# Altium footprint library PcbLib.PcbLib: 20 footprints (part 1 of 2)
Each footprint in its own frame and in the unit in brackets; x right, y up, seen from the top. Pads: shape width x height; smd on the part's side, far side on the other; paste and mask are expansions set on the pad; w line width, h text height; cw(c..) or ccw(c..) is an arc to the next point about the centre after c.
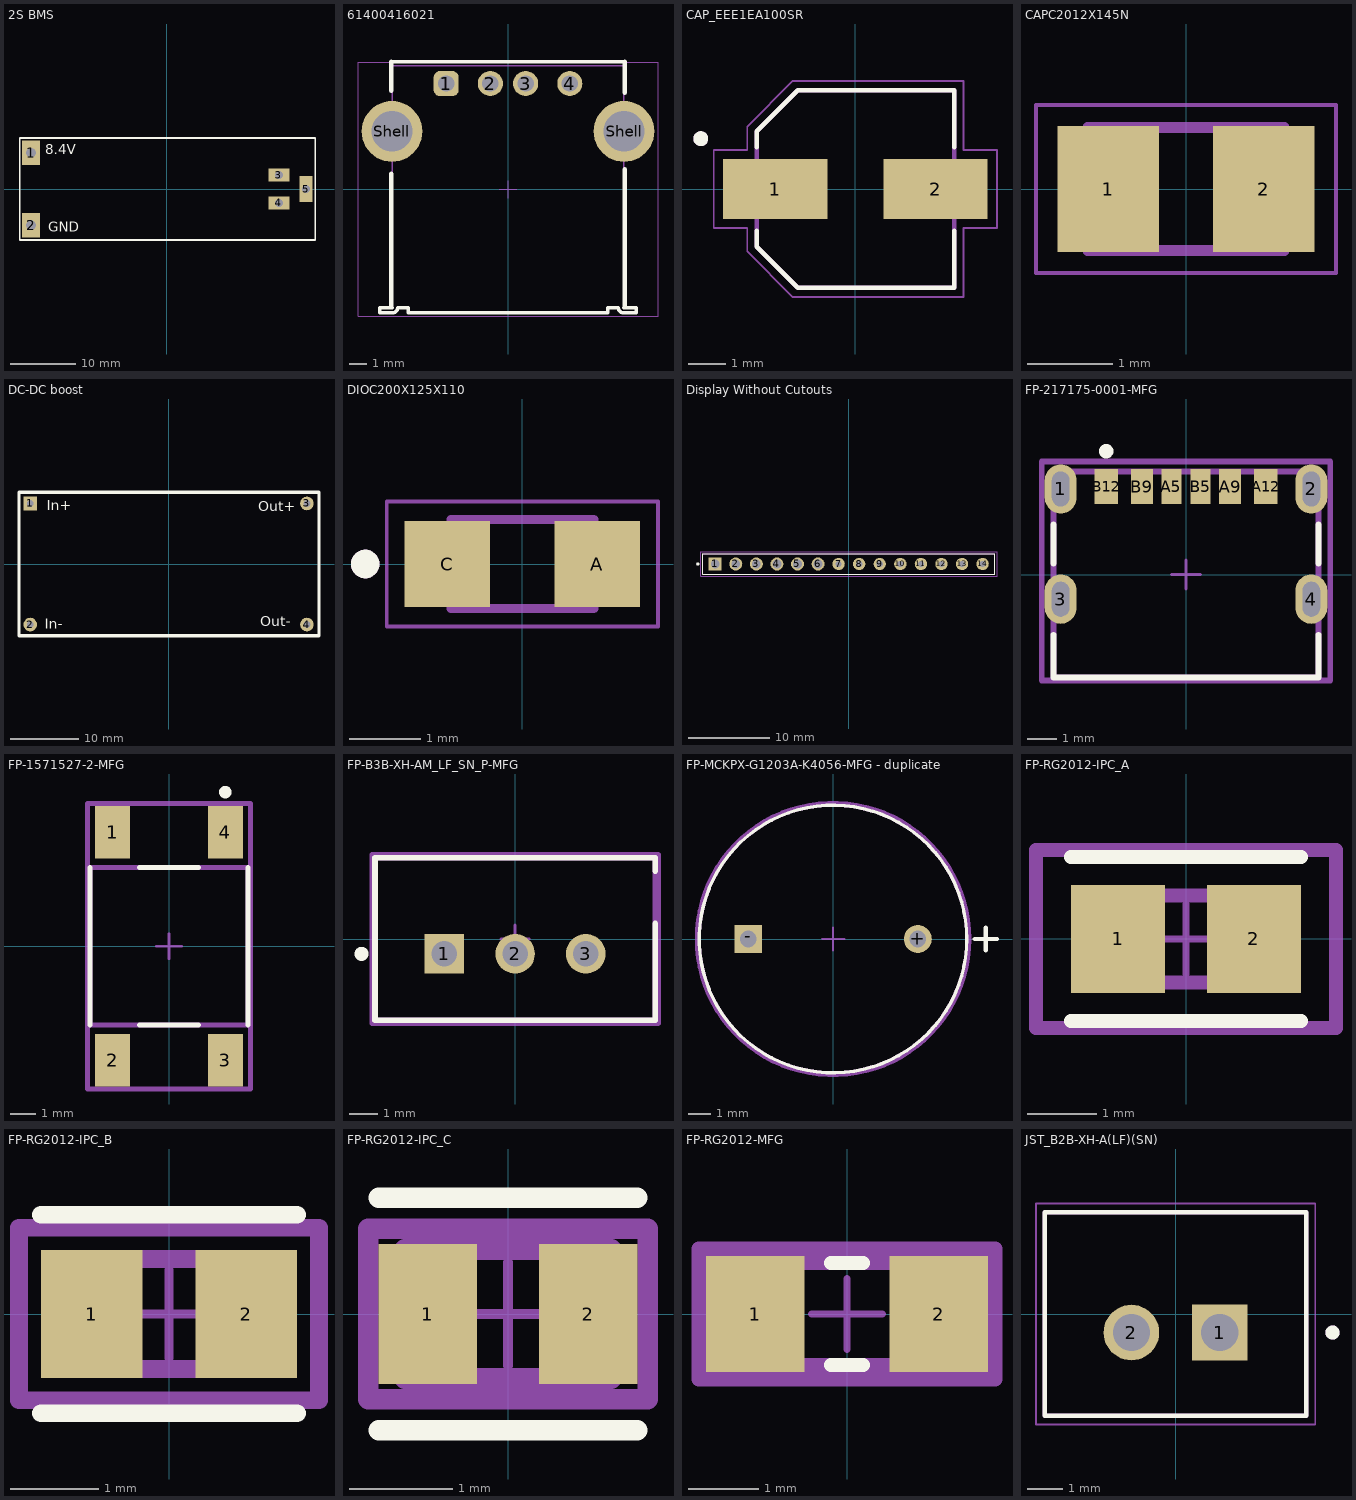
[diagram p0: the footprints below, top view; thin cyan lines are the x and y axes]

## 2S BMS [mil]
pads (5):
  rect 110.1x147 hole 60 mask-99999: 1(-825,220)
  rect 110.11x147.48 hole 60 mask-99999: 2(-825,-220)
  rect 127.48x78.74 hole 50 mask-99999: 3(680,85) 4(680,-85)
  rect 78.74x157.48 hole 50 mask-99999: 5(845,0)
Top Overlay:
  lines w10: -895,-310 900,-310 900,310 -895,310 -895,-310
  text "GND" at -720,-260 h60
  text "8.4V" at -740,210 h60
Top Solder:
  region: 612.63,-129.37 612.63,-40.63 747.37,-40.63 747.37,-129.37
  region: 800.63,-83.74 800.63,83.74 889.37,83.74 889.37,-83.74
  region: -884.05,-298.74 -884.05,-141.26 -765.95,-141.26 -765.95,-298.74
  region: -884.06,141.26 -884.06,298.74 -765.94,298.74 -765.94,141.26
  region: 612.63,40.63 612.63,129.37 747.37,129.37 747.37,40.63
Bottom Solder:
  region: 613,-129.37 613,-40.63 747,-40.63 747,-129.37
  region: 800.63,-83.5 800.63,83.5 889.37,83.5 889.37,-83.5
  region: -884.06,-298.74 -884.06,-141.26 -765.94,-141.26 -765.94,-298.74
  region: -884.06,141.26 -884.06,298.74 -765.94,298.74 -765.94,141.26
  region: 613,40.63 613,129.37 747,129.37 747,40.63

## 61400416021 [mm] "USB 2.0 Type A Horizontal"
height 6.9
pads (6):
  rrect50% 1.42x1.42 hole 0.92: 1(-3.5,5.99)
  round 1.42 hole 0.92: 2(-1,5.99) 3(1,5.99) 4(3.5,5.99)
  round 3.45 hole 2.3: Shell(-6.57,3.28) Shell(6.57,3.28)
Top Overlay:
  lines w0.2: -6.604,7.239 6.496,7.239 ; -6.55,-6.7 -7.25,-6.7 -7.25,-7 -6.56,-7 ccw(c-6.55,-6.7) -6.25,-6.7 -5.65,-6.7 -5.65,-7 5.65,-7 5.65,-6.7 6.25,-6.7 ccw(c6.55,-6.7) 6.56,-7 7.25,-7 7.25,-6.7 6.55,-6.7
  lines w0.254: -6.604,-6.604 -6.604,0.889 ; -6.604,5.588 -6.604,7.239 ; 6.604,-6.604 6.604,1.143 ; 6.604,5.461 6.604,7.239
Top 3D Body:
  lines w0.1: -5.65,-7 5.65,-7 ; -5.65,-7 5.65,-7 ; -5.65,-7 -5.65,-6.7 -6.25,-6.7 cw(c-6.55,-6.7) -6.56,-7 -7.25,-7 -7.25,-6.7 -6.55,-6.7 -6.55,7 6.55,7 6.55,-6.7 7.25,-6.7 7.25,-7 6.56,-7 cw(c6.55,-6.7) 6.25,-6.7 5.65,-6.7 5.65,-7
  text "PCB Edge" at -2.2,-8.22 h0.81
Top Courtyard:
  lines w0.05: -0.5,0 0.5,0 ; 0,-0.5 0,0.5 ; -8.495,-7.2 8.495,-7.2 8.495,7.2 -8.495,7.2 -8.495,-7.2
Top Designator:
  text ".Designator" at -7.498,-0.5 h1.5
Top Component Outline:
  lines w0.1: -7.25,-7 -7.25,-6.7 -6.55,-6.7 -6.55,7 6.55,7 6.55,-6.7 7.25,-6.7 7.25,-7 6.56,-7 cw(c6.55,-6.7) 6.25,-6.7 5.65,-6.7 5.65,-7 -5.65,-7 -5.65,-6.7 -6.25,-6.7 cw(c-6.55,-6.7) -6.56,-7 -7.25,-7
3D body "61400416021.stp": height 7.63, standoff -4.06, extent -7.999,-7 7.999,7

## CAP_EEE1EA100SR [mm]
pads (2):
  rect 2.8x1.6 smd: 1(-2.15,0) 2(2.15,0)
Top Overlay:
  circle w0.2: c-4.15,1.35 r0.1
  lines w0.127: -2.65,-1.12 -2.65,-1.55 -1.55,-2.65 2.65,-2.65 2.65,-1.12 ; -2.65,1.12 -2.65,1.55 -1.55,2.65 2.65,2.65 2.65,1.12
Mechanical 13:
  circle w0.2: c-4.15,1.35 r0.1
  lines w0.127: -2.65,-1.55 -1.55,-2.65 2.65,-2.65 2.65,2.65 -1.55,2.65 -2.65,1.55 -2.65,-1.55
Mechanical 15:
  lines w0.05: -3.8,-1.05 -3.8,1.05 -2.9,1.05 -2.9,1.675 -1.675,2.9 2.9,2.9 2.9,1.05 3.8,1.05 3.8,-1.05 2.9,-1.05 2.9,-2.9 -1.675,-2.9 -2.9,-1.675 -2.9,-1.05 -3.8,-1.05
3D body "step_temp.STEP": height 5.8, standoff 0, extent -3,-2.65 3,2.65

## CAPC2012X145N [mm]
pads (2):
  rect 1.19x1.47 smd: 1(-0.91,0) 2(0.91,0)
Mechanical 13:
  lines w0.127: -1.15,-0.72 1.15,-0.72 1.15,0.72 -1.15,0.72 -1.15,-0.72
Mechanical 15:
  lines w0.05: -1.755,-0.983 1.755,-0.983 1.755,0.983 -1.755,0.983 -1.755,-0.983
3D body "step_temp.STEP": height 1.45, standoff 0, extent -1,-0.625 1,0.625

## DC-DC boost [mm]
pads (4):
  rect 2x2 hole 1: 1(-20.32,8.89)
  round 2 hole 1: 2(-20.32,-8.89) 3(20.32,8.89) 4(20.32,-8.89)
Top Overlay:
  lines w0.508: -21.971,-10.541 22.098,-10.541 22.098,10.541 -21.971,10.541 -21.971,-10.541
  text "In+" at -17.907,7.874 h1.52
  text "In-" at -18.161,-9.525 h1.52
  text "Out+" at 13.208,7.747 h1.52
  text "Out-" at 13.462,-9.144 h1.52

## DIOC200X125X110 [mm]
pads (2):
  rect 1.2x1.2 smd: A(1.05,0) C(-1.05,0)
Top Overlay:
  circle w0.2: c-2.2,0 r0.1
Mechanical 13:
  circle w0.2: c-2.2,0 r0.1
  lines w0.127: -0.136,-0.625 0.136,-0.625 ; -0.136,0.625 0.136,0.625 ; -1,-0.625 -1,0.625 1,0.625 1,-0.625 -1,-0.625
Mechanical 15:
  lines w0.05: -1.9,-0.875 -1.9,0.875 1.9,0.875 1.9,-0.875 -1.9,-0.875
3D body "step_temp.STEP": height 1.1, standoff 0, extent -1,-0.625 1,0.625

## Display Without Cutouts [mil]
height 334.65
pads (14):
  rect 63.19x63.19 / inner round 63.19 / far side rect 63.19x63.19 hole 42.13: 1(-650,1560)
  round 63.19 hole 42.13: 2(-550,1560) 3(-450,1560) 4(-350,1560) 5(-250,1560) 6(-150,1560)
  round 60 hole 30: 7(-50,1560) 8(50,1560) 9(150,1560) 10(250,1560) 11(350,1560) 12(450,1560) 13(550,1560) 14(650,1560)
Top Overlay:
  circle w7.87: c-734.65,1560 r3.94
  lines w5: -709.84,1510 -709.84,1610 710,1610 710,1510 -709.84,1510
Mechanical 13:
  lines w5: -709.84,1510 -709.84,1610 710,1610 710,1510 -709.84,1510
Mechanical 15:
  lines w1.97: -719.68,1500.16 720,1500.16 720,1619.84 -719.68,1619.84 -719.68,1500.16
3D body "step_temp.STEP": height 335, standoff -126, extent -710,1510 -90,1610
3D body "step_temp.STEP": height 335, standoff -126, extent 90,1510 710,1610
3D body "step_temp.STEP": height 335, standoff -126, extent -110,1510 510,1610
3D body "TFT LCD 2.8inch ILI9341.step": height 649.61, standoff 102.36, extent -983.9,-1610 985,1610.91

## FP-217175-0001-MFG [mm]
pads (10):
  rrect100% 1.1x1.7 hole 0.6 slot 1.2 at 90 deg paste-2539.97 mask+0: 1(-4.32,2.95) 2(4.32,2.95) 3(-4.32,-0.85) 4(4.32,-0.85)
  rect 0.7x1.2 smd paste+0 mask+0: A5(-0.5,3.03) B5(0.5,3.03)
  rect 0.76x1.2 smd paste+0 mask+0: A9(1.52,3.03) B9(-1.52,3.03)
  rect 0.8x1.2 smd paste+0 mask+0: A12(2.75,3.03) B12(-2.75,3.03)
Top Overlay:
  circle w0.25: c-2.75,4.25 r0.125
  lines w0.2: -4.57,-2.075 -4.57,-3.55 4.57,-3.55 4.57,-2.075 ; -4.57,0.375 -4.57,1.725 ; 4.57,0.375 4.57,1.725
Top 3D Body:
  lines w0.2: -4.57,-3.55 -4.57,3.55 4.57,3.55 4.57,-3.55 -4.57,-3.55
Top Courtyard:
  lines w0.2: -4.97,-3.65 -4.97,3.9 4.97,3.9 4.97,-3.65 -4.97,-3.65
Top Assembly:
  lines w0.2: -4.97,-3.65 -4.97,3.9 4.97,3.9 4.97,-3.65 -4.97,-3.65
  text ".Designator" at 0,0.313 h1
Top Component Center:
  lines w0.1: -0.5,0 0.5,0 ; 0,-0.5 0,0.5
3D body "Conn_Molex_217175-0001_eec.STEP": height 0.25, standoff 0, extent -4.97,-3.65 4.97,3.9

## FP-1571527-2-MFG [mm]
pads (4):
  rect 1.4x2.1 smd paste+0 mask+0: 1(-2.25,4.55) 2(-2.25,-4.55) 3(2.25,-4.55) 4(2.25,4.55)
Top Overlay:
  circle w0.25: c2.25,6.15 r0.125
  lines w0.2: -3.15,-3.15 -3.15,3.15 ; -1.175,-3.15 1.175,-3.15 ; -1.175,3.15 1.175,3.15 ; 3.15,-3.15 3.15,3.15
Top 3D Body:
  lines w0.2: -3.15,-3.15 -3.15,3.15 3.15,3.15 3.15,-3.15 -3.15,-3.15
Top Courtyard:
  lines w0.2: -3.25,-5.7 -3.25,5.7 3.25,5.7 3.25,-5.7 -3.25,-5.7
Top Assembly:
  lines w0.2: -3.25,-5.7 -3.25,5.7 3.25,5.7 3.25,-5.7 -3.25,-5.7
  text ".Designator" at 0,0.188 h1
Top Component Center:
  lines w0.1: -0.5,0 0.5,0 ; 0,-0.5 0,0.5
3D body "Switch_TE_Connectivity_1571527-2_eec.STEP": height 0.25, standoff 0, extent -3.25,-5.7 3.25,5.7

## FP-B3B-XH-AM_LF_SN_P-MFG [mm]
pads (3):
  rect 1.4x1.4 hole 0.9 paste-2539.97 mask+0: 1(-2.5,-0.525)
  round 1.4 hole 0.9 paste-2539.97 mask+0: 2(0,-0.525) 3(2.5,-0.525)
Top Overlay:
  circle w0.25: c-5.425,-0.525 r0.125
  lines w0.2: 4.95,0.55 4.95,-2.875 -4.95,-2.875 -4.95,2.875 4.95,2.875 4.95,2.4
Top 3D Body:
  lines w0.2: -4.95,-2.875 -4.95,2.875 4.95,2.875 4.95,-2.875 -4.95,-2.875
Top Courtyard:
  lines w0.2: -5.05,-2.975 -5.05,2.975 5.05,2.975 5.05,-2.975 -5.05,-2.975
Top Assembly:
  lines w0.2: -5.05,-2.975 -5.05,2.975 5.05,2.975 5.05,-2.975 -5.05,-2.975
  text ".Designator" at 0,0.188 h1
Top Component Center:
  lines w0.1: -0.5,0 0.5,0 ; 0,-0.5 0,0.5
3D body "Conn_JST_B3B-XH-AM_LF_SN_P_eec.STEP": height 0.25, standoff 0, extent -5.05,-2.975 5.05,2.975

## FP-MCKPX-G1203A-K4056-MFG - duplicate [mm]
pads (2):
  round 1.25 hole 0.75 paste-2539.97 mask+0: +(3.8,0)
  rect 1.25x1.25 hole 0.75 paste-2539.97 mask+0: -(-3.8,0)
Top Overlay:
  circle w0.15: c0,0 r6
  lines w0.2: 6.35,0 7.35,0 ; 6.85,-0.5 6.85,0.5
Top 3D Body:
  circle w0.15: c0,0 r6
Top Courtyard:
  lines w0.2: -6.1,0 ccw(c0,0) 6.1,0 ccw(c0,0) -6.1,0
Top Assembly:
  text ".Designator" at 0,0.188 h1
Top Component Center:
  lines w0.1: -0.5,0 0.5,0 ; 0,-0.5 0,0.5
3D body "Speak_Multicomp_Pro_MCKPX-G1203A-K4056_eec.STEP": height 0.25, standoff 0, extent -6.1,-6.1 6.1,6.1

## FP-RG2012-IPC_A [mm]
pads (2):
  rect 1.355x1.556 smd paste+0 mask+0: 1(-0.976,0) 2(0.976,0)
Top Overlay:
  lines w0.2: -1.653,-1.178 1.653,-1.178 ; -1.653,1.178 1.653,1.178
Top 3D Body:
  lines w0.2: -1,-0.625 1,-0.625 1,0.625 -1,0.625 -1,-0.625
Top Courtyard:
  lines w0.2: -2.153,-1.278 2.153,-1.278 2.153,1.278 -2.153,1.278 -2.153,-1.278
Top Assembly:
  lines w0.2: -2.153,-1.278 2.153,-1.278 2.153,1.278 -2.153,1.278 -2.153,-1.278
  text ".Designator" at 0,0.188 h1
Top Component Center:
  lines w0.1: -0.5,0 0.5,0 ; 0,-0.5 0,0.5
3D body "Res_Susumu_RG2012N-394-W-T1_eec.STEP": height 0.25, standoff 0, extent -2.153,-1.278 2.153,1.278

## FP-RG2012-IPC_B [mm]
pads (2):
  rect 1.155x1.456 smd paste+0 mask+0: 1(-0.876,0) 2(0.876,0)
Top Overlay:
  lines w0.2: -1.453,-1.128 1.453,-1.128 ; -1.453,1.128 1.453,1.128
Top 3D Body:
  lines w0.2: -1,-0.625 1,-0.625 1,0.625 -1,0.625 -1,-0.625
Top Courtyard:
  lines w0.2: -1.703,-0.978 1.703,-0.978 1.703,0.978 -1.703,0.978 -1.703,-0.978
Top Assembly:
  lines w0.2: -1.703,-0.978 1.703,-0.978 1.703,0.978 -1.703,0.978 -1.703,-0.978
  text ".Designator" at 0,0.188 h1
Top Component Center:
  lines w0.1: -0.5,0 0.5,0 ; 0,-0.5 0,0.5
3D body "Res_Susumu_RG2012N-394-W-T1_eec.STEP": height 0.25, standoff 0, extent -1.703,-0.978 1.703,0.978

## FP-RG2012-IPC_C [mm]
pads (2):
  rect 0.955x1.356 smd paste+0 mask+0: 1(-0.776,0) 2(0.776,0)
Top Overlay:
  lines w0.2: -1.253,-1.125 1.253,-1.125 ; -1.253,1.125 1.253,1.125
Top 3D Body:
  lines w0.2: -1,-0.625 -1,0.625 1,0.625 1,-0.625 -1,-0.625
Top Courtyard:
  lines w0.2: -1.353,-0.825 -1.353,0.825 1.353,0.825 1.353,-0.825 -1.353,-0.825
Top Assembly:
  lines w0.2: -1.353,-0.825 -1.353,0.825 1.353,0.825 1.353,-0.825 -1.353,-0.825
  text ".Designator" at 0,0.188 h1
Top Component Center:
  lines w0.1: -0.5,0 0.5,0 ; 0,-0.5 0,0.5
3D body "Res_Susumu_RG2012N-394-W-T1_eec.STEP": height 0.25, standoff 0, extent -1.353,-0.825 1.353,0.825

## FP-RG2012-MFG [mm]
pads (2):
  rect 1.4x1.65 smd paste+0 mask+0: 1(-1.3,0) 2(1.3,0)
Top Overlay:
  lines w0.2: -0.225,-0.725 0.225,-0.725 ; -0.225,0.725 0.225,0.725
Top 3D Body:
  lines w0.2: -1.1,-0.725 -1.1,0.725 1.1,0.725 1.1,-0.725 -1.1,-0.725
Top Courtyard:
  lines w0.2: -2.1,-0.925 -2.1,0.925 2.1,0.925 2.1,-0.925 -2.1,-0.925
Top Assembly:
  lines w0.2: -2.1,-0.925 -2.1,0.925 2.1,0.925 2.1,-0.925 -2.1,-0.925
  text ".Designator" at 0,0.188 h1
Top Component Center:
  lines w0.1: -0.5,0 0.5,0 ; 0,-0.5 0,0.5
3D body "Res_Susumu_RG2012N-394-W-T1_eec.STEP": height 0.25, standoff 0, extent -2.1,-0.925 2.1,0.925

## JST_B2B-XH-A(LF)(SN) [mm]
height 7
pads (2):
  rect 1.575x1.575 / inner round 1.575 / far side rect 1.575x1.575 hole 1.05: 1(1.25,-0.525)
  round 1.575 hole 1.05: 2(-1.25,-0.525)
Top Overlay:
  circle w0.2: c4.44,-0.525 r0.1
  lines w0.127: -3.7,-2.875 -3.7,2.875 3.7,2.875 3.7,-2.875 -3.7,-2.875
Mechanical 13:
  circle w0.2: c4.44,-0.525 r0.1
  lines w0.127: -3.7,-2.875 -3.7,2.875 3.7,2.875 3.7,-2.875 -3.7,-2.875
Mechanical 15:
  lines w0.05: -3.95,-3.125 3.95,-3.125 3.95,3.125 -3.95,3.125 -3.95,-3.125
3D body "step_temp.STEP": height 7, standoff -3.4, extent -3.7,-2.875 3.7,2.875